# Altium integrated library IDT Memory SRAM.IntLib: 46 symbols (part 2 of 2)
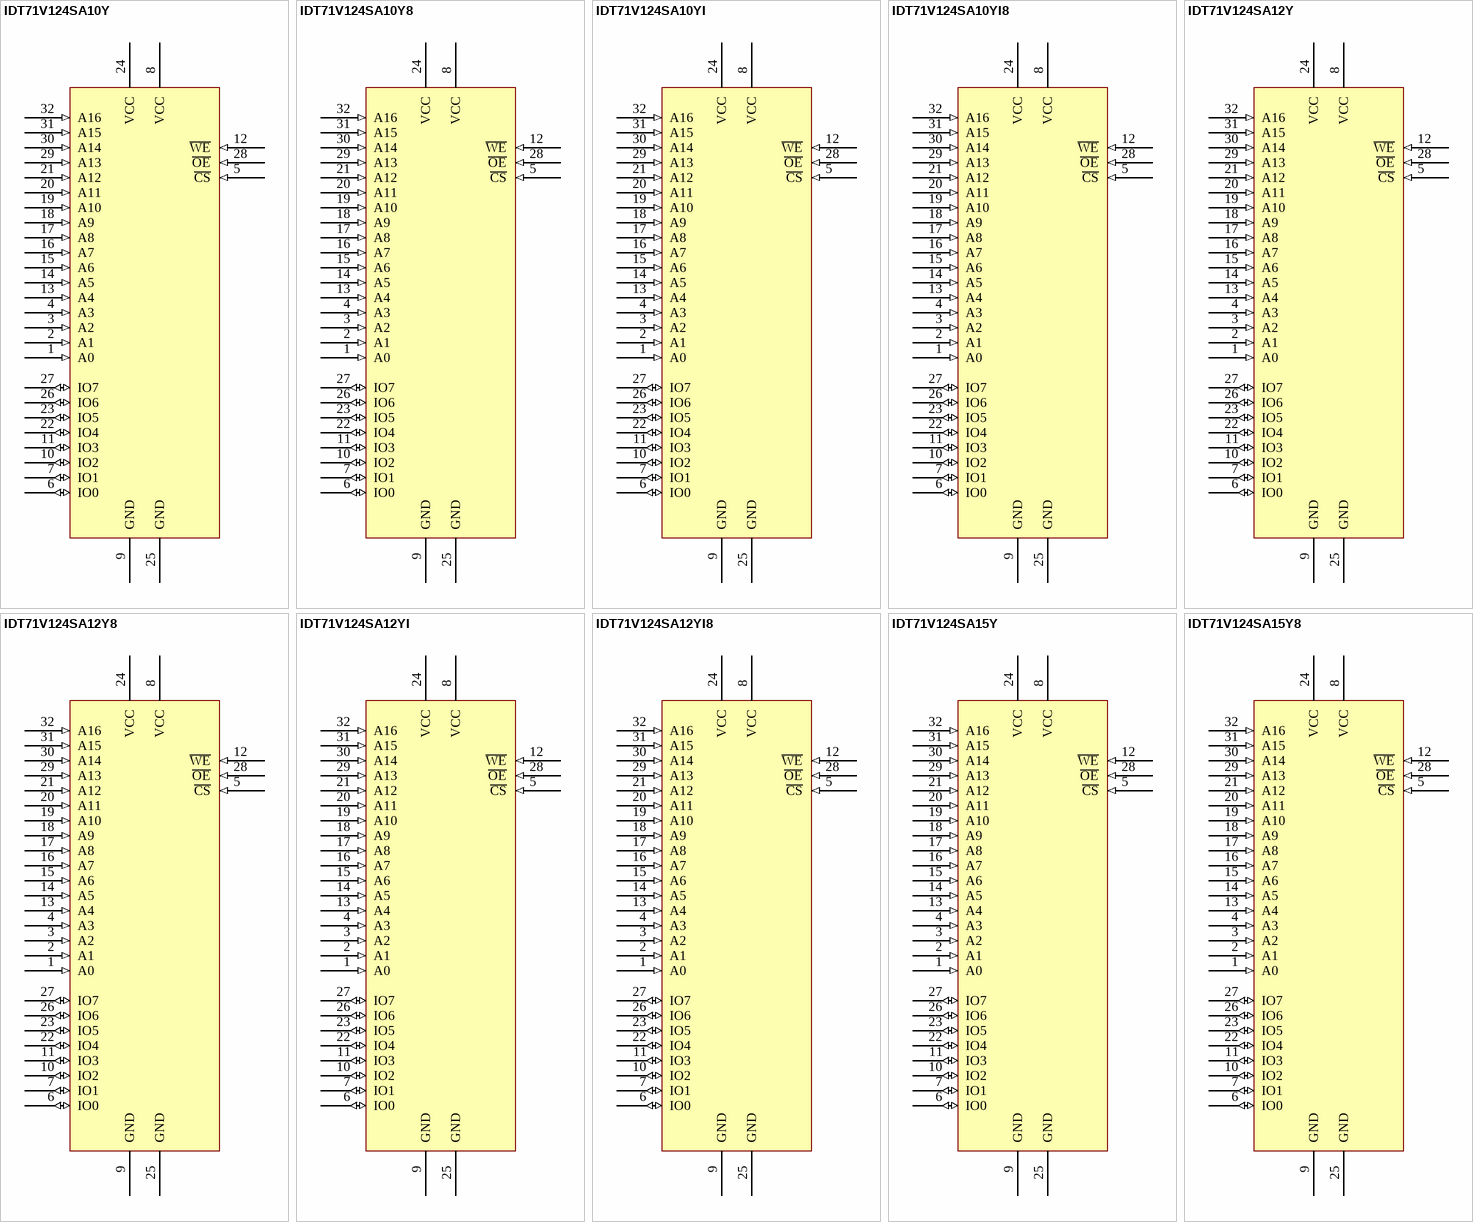
[diagram p5: symbols IDT71V124SA10Y to IDT71V124SA15Y8]

## IDT71V124SA12Y
designator U?
1 Mb (128 K x 8) 3.3 Volt CMOS SRAM, Center Power and Ground Pinout, 12 ns, 400-mil SOJ32, Commercial Grade; PackageDocument: rev01, Oct-2004; Published: 6-Oct-2005; DatasheetDocument: Jan-2004; PackageReference: PB32; Publisher: Altium Limited; Code_JEDEC: MS-027-AB; ComponentLink1Description: Manufacturer Link; ComponentLink1URL: http://www1.idt.com/pcms/products.taf?catID=58743&genID=71V124SA; ComponentLink2Description: Datasheet; ComponentLink2URL: http://www1.idt.com/pcms/tempDocs/71V124sa.pdf
pcadlib SO-J32 (SOJ; 32 Leads; Body Width 7.5 mm; Pitch 1.27 mm)
footprint PB32 (SOJ; 32 Leads; Body Width 10.16 mm; Pitch 1.27 mm)
pins: 1 A0 (in) "Address 0", 2 A1 (in) "Address 1", 3 A2 (in) "Address 3", 4 A3 (in) "Address 3", 5 ~{CS} (in) "Chip Select", 6 IO0 (io) "Data 0", 7 IO1 (io) "Data 1", 8 VCC (power) "Pos Supply", 9 GND (power), 10 IO2 (io) "Data 2", 11 IO3 (io) "Data 3", 12 ~{WE} (in) "Write Enable", 13 A4 (in) "Address 4", 14 A5 (in) "Address 5", 15 A6 (in) "Address 6", 16 A7 (in) "Address 7", 17 A8 (in) "Address 8", 18 A9 (in) "Address 9", 19 A10 (in) "Address 10", 20 A11 (in) "Address 11", 21 A12 (in) "Address 12", 22 IO4 (io) "Data 4", 23 IO5 (io) "Data 5", 24 VCC (power) "Pos Supply", 25 GND (power), 26 IO6 (io) "Data 6", 27 IO7 (io) "Data 7", 28 ~{OE} (in) "Output Enable", 29 A13 (in) "Address 13", 30 A14 (in) "Address 14", 31 A15 (in) "Address 15", 32 A16 (in) "Address 16"

## IDT71V124SA12Y8
designator U?
1 Mb (128 K x 8) 3.3 Volt CMOS SRAM, Center Power and Ground Pinout, 12 ns, 400-mil SOJ32, Commercial Grade; PackageDocument: rev01, Oct-2004; Published: 6-Oct-2005; DatasheetDocument: Jan-2004; PackageReference: PB32; Publisher: Altium Limited; Code_JEDEC: MS-027-AB; ComponentLink1Description: Manufacturer Link; ComponentLink1URL: http://www1.idt.com/pcms/products.taf?catID=58743&genID=71V124SA; ComponentLink2Description: Datasheet; ComponentLink2URL: http://www1.idt.com/pcms/tempDocs/71V124sa.pdf
pcadlib SO-J32 (SOJ; 32 Leads; Body Width 7.5 mm; Pitch 1.27 mm)
footprint PB32 (SOJ; 32 Leads; Body Width 10.16 mm; Pitch 1.27 mm)
pins: 1 A0 (in) "Address 0", 2 A1 (in) "Address 1", 3 A2 (in) "Address 3", 4 A3 (in) "Address 3", 5 ~{CS} (in) "Chip Select", 6 IO0 (io) "Data 0", 7 IO1 (io) "Data 1", 8 VCC (power) "Pos Supply", 9 GND (power), 10 IO2 (io) "Data 2", 11 IO3 (io) "Data 3", 12 ~{WE} (in) "Write Enable", 13 A4 (in) "Address 4", 14 A5 (in) "Address 5", 15 A6 (in) "Address 6", 16 A7 (in) "Address 7", 17 A8 (in) "Address 8", 18 A9 (in) "Address 9", 19 A10 (in) "Address 10", 20 A11 (in) "Address 11", 21 A12 (in) "Address 12", 22 IO4 (io) "Data 4", 23 IO5 (io) "Data 5", 24 VCC (power) "Pos Supply", 25 GND (power), 26 IO6 (io) "Data 6", 27 IO7 (io) "Data 7", 28 ~{OE} (in) "Output Enable", 29 A13 (in) "Address 13", 30 A14 (in) "Address 14", 31 A15 (in) "Address 15", 32 A16 (in) "Address 16"

## IDT71V124SA12YI
designator U?
1 Mb (128 K x 8) 3.3 Volt CMOS SRAM, Center Power and Ground Pinout, 12 ns, 400-mil SOJ32, Industrial Grade; PackageDocument: rev01, Oct-2004; Published: 6-Oct-2005; DatasheetDocument: Jan-2004; PackageReference: PB32; Publisher: Altium Limited; Code_JEDEC: MS-027-AB; ComponentLink1Description: Manufacturer Link; ComponentLink1URL: http://www1.idt.com/pcms/products.taf?catID=58743&genID=71V124SA; ComponentLink2Description: Datasheet; ComponentLink2URL: http://www1.idt.com/pcms/tempDocs/71V124sa.pdf
pcadlib SO-J32 (SOJ; 32 Leads; Body Width 7.5 mm; Pitch 1.27 mm)
footprint PB32 (SOJ; 32 Leads; Body Width 10.16 mm; Pitch 1.27 mm)
pins: 1 A0 (in) "Address 0", 2 A1 (in) "Address 1", 3 A2 (in) "Address 3", 4 A3 (in) "Address 3", 5 ~{CS} (in) "Chip Select", 6 IO0 (io) "Data 0", 7 IO1 (io) "Data 1", 8 VCC (power) "Pos Supply", 9 GND (power), 10 IO2 (io) "Data 2", 11 IO3 (io) "Data 3", 12 ~{WE} (in) "Write Enable", 13 A4 (in) "Address 4", 14 A5 (in) "Address 5", 15 A6 (in) "Address 6", 16 A7 (in) "Address 7", 17 A8 (in) "Address 8", 18 A9 (in) "Address 9", 19 A10 (in) "Address 10", 20 A11 (in) "Address 11", 21 A12 (in) "Address 12", 22 IO4 (io) "Data 4", 23 IO5 (io) "Data 5", 24 VCC (power) "Pos Supply", 25 GND (power), 26 IO6 (io) "Data 6", 27 IO7 (io) "Data 7", 28 ~{OE} (in) "Output Enable", 29 A13 (in) "Address 13", 30 A14 (in) "Address 14", 31 A15 (in) "Address 15", 32 A16 (in) "Address 16"

## IDT71V124SA12YI8
designator U?
1 Mb (128 K x 8) 3.3 Volt CMOS SRAM, Center Power and Ground Pinout, 12 ns, 400-mil SOJ32, Industrial Grade; PackageDocument: rev01, Oct-2004; Published: 6-Oct-2005; DatasheetDocument: Jan-2004; PackageReference: PB32; Publisher: Altium Limited; Code_JEDEC: MS-027-AB; ComponentLink1Description: Manufacturer Link; ComponentLink1URL: http://www1.idt.com/pcms/products.taf?catID=58743&genID=71V124SA; ComponentLink2Description: Datasheet; ComponentLink2URL: http://www1.idt.com/pcms/tempDocs/71V124sa.pdf
pcadlib SO-J32 (SOJ; 32 Leads; Body Width 7.5 mm; Pitch 1.27 mm)
footprint PB32 (SOJ; 32 Leads; Body Width 10.16 mm; Pitch 1.27 mm)
pins: 1 A0 (in) "Address 0", 2 A1 (in) "Address 1", 3 A2 (in) "Address 3", 4 A3 (in) "Address 3", 5 ~{CS} (in) "Chip Select", 6 IO0 (io) "Data 0", 7 IO1 (io) "Data 1", 8 VCC (power) "Pos Supply", 9 GND (power), 10 IO2 (io) "Data 2", 11 IO3 (io) "Data 3", 12 ~{WE} (in) "Write Enable", 13 A4 (in) "Address 4", 14 A5 (in) "Address 5", 15 A6 (in) "Address 6", 16 A7 (in) "Address 7", 17 A8 (in) "Address 8", 18 A9 (in) "Address 9", 19 A10 (in) "Address 10", 20 A11 (in) "Address 11", 21 A12 (in) "Address 12", 22 IO4 (io) "Data 4", 23 IO5 (io) "Data 5", 24 VCC (power) "Pos Supply", 25 GND (power), 26 IO6 (io) "Data 6", 27 IO7 (io) "Data 7", 28 ~{OE} (in) "Output Enable", 29 A13 (in) "Address 13", 30 A14 (in) "Address 14", 31 A15 (in) "Address 15", 32 A16 (in) "Address 16"

## IDT71V124SA15Y
designator U?
1 Mb (128 K x 8) 3.3 Volt CMOS SRAM, Center Power and Ground Pinout, 15 ns, 400-mil SOJ32, Commercial Grade; PackageDocument: rev01, Oct-2004; Published: 6-Oct-2005; DatasheetDocument: Jan-2004; PackageReference: PB32; Publisher: Altium Limited; Code_JEDEC: MS-027-AB; ComponentLink1Description: Manufacturer Link; ComponentLink1URL: http://www1.idt.com/pcms/products.taf?catID=58743&genID=71V124SA; ComponentLink2Description: Datasheet; ComponentLink2URL: http://www1.idt.com/pcms/tempDocs/71V124sa.pdf
pcadlib SO-J32 (SOJ; 32 Leads; Body Width 7.5 mm; Pitch 1.27 mm)
footprint PB32 (SOJ; 32 Leads; Body Width 10.16 mm; Pitch 1.27 mm)
pins: 1 A0 (in) "Address 0", 2 A1 (in) "Address 1", 3 A2 (in) "Address 3", 4 A3 (in) "Address 3", 5 ~{CS} (in) "Chip Select", 6 IO0 (io) "Data 0", 7 IO1 (io) "Data 1", 8 VCC (power) "Pos Supply", 9 GND (power), 10 IO2 (io) "Data 2", 11 IO3 (io) "Data 3", 12 ~{WE} (in) "Write Enable", 13 A4 (in) "Address 4", 14 A5 (in) "Address 5", 15 A6 (in) "Address 6", 16 A7 (in) "Address 7", 17 A8 (in) "Address 8", 18 A9 (in) "Address 9", 19 A10 (in) "Address 10", 20 A11 (in) "Address 11", 21 A12 (in) "Address 12", 22 IO4 (io) "Data 4", 23 IO5 (io) "Data 5", 24 VCC (power) "Pos Supply", 25 GND (power), 26 IO6 (io) "Data 6", 27 IO7 (io) "Data 7", 28 ~{OE} (in) "Output Enable", 29 A13 (in) "Address 13", 30 A14 (in) "Address 14", 31 A15 (in) "Address 15", 32 A16 (in) "Address 16"

## IDT71V124SA15Y8
designator U?
1 Mb (128 K x 8) 3.3 Volt CMOS SRAM, Center Power and Ground Pinout, 15 ns, 400-mil SOJ32, Commercial Grade; PackageDocument: rev01, Oct-2004; Published: 6-Oct-2005; DatasheetDocument: Jan-2004; PackageReference: PB32; Publisher: Altium Limited; Code_JEDEC: MS-027-AB; ComponentLink1Description: Manufacturer Link; ComponentLink1URL: http://www1.idt.com/pcms/products.taf?catID=58743&genID=71V124SA; ComponentLink2Description: Datasheet; ComponentLink2URL: http://www1.idt.com/pcms/tempDocs/71V124sa.pdf
pcadlib SO-J32 (SOJ; 32 Leads; Body Width 7.5 mm; Pitch 1.27 mm)
footprint PB32 (SOJ; 32 Leads; Body Width 10.16 mm; Pitch 1.27 mm)
pins: 1 A0 (in) "Address 0", 2 A1 (in) "Address 1", 3 A2 (in) "Address 3", 4 A3 (in) "Address 3", 5 ~{CS} (in) "Chip Select", 6 IO0 (io) "Data 0", 7 IO1 (io) "Data 1", 8 VCC (power) "Pos Supply", 9 GND (power), 10 IO2 (io) "Data 2", 11 IO3 (io) "Data 3", 12 ~{WE} (in) "Write Enable", 13 A4 (in) "Address 4", 14 A5 (in) "Address 5", 15 A6 (in) "Address 6", 16 A7 (in) "Address 7", 17 A8 (in) "Address 8", 18 A9 (in) "Address 9", 19 A10 (in) "Address 10", 20 A11 (in) "Address 11", 21 A12 (in) "Address 12", 22 IO4 (io) "Data 4", 23 IO5 (io) "Data 5", 24 VCC (power) "Pos Supply", 25 GND (power), 26 IO6 (io) "Data 6", 27 IO7 (io) "Data 7", 28 ~{OE} (in) "Output Enable", 29 A13 (in) "Address 13", 30 A14 (in) "Address 14", 31 A15 (in) "Address 15", 32 A16 (in) "Address 16"

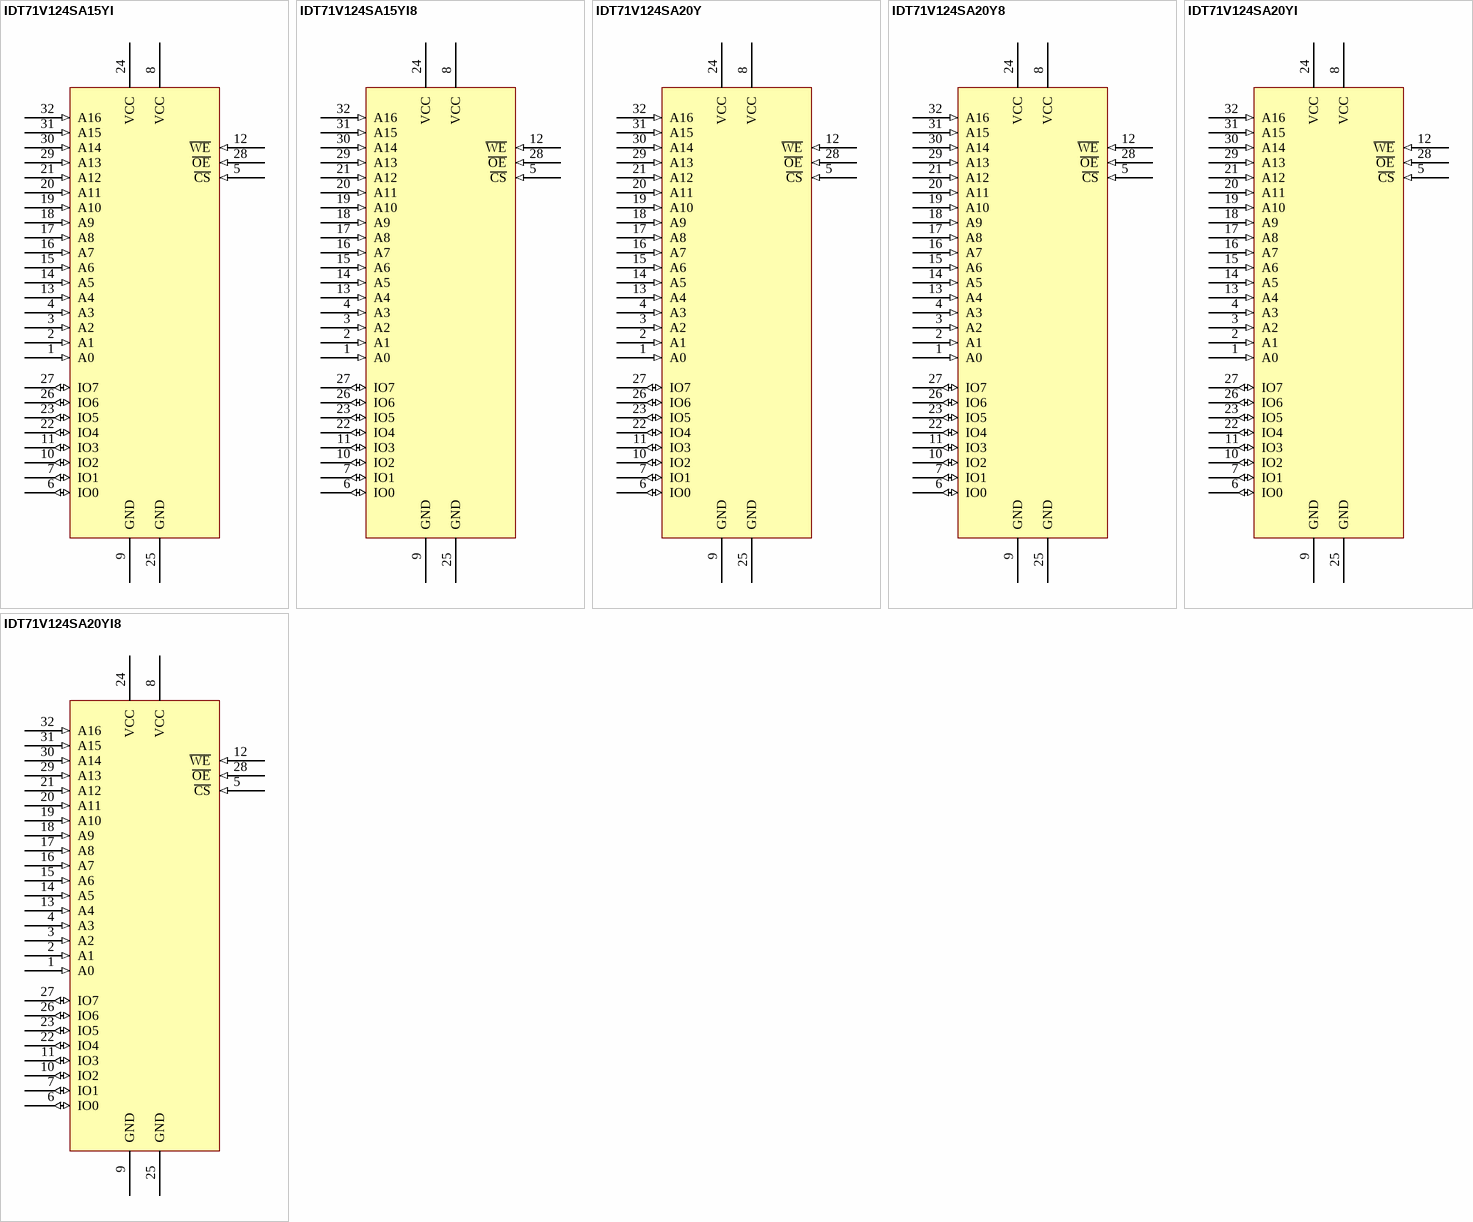
[diagram p4: symbols IDT71V124SA15YI to IDT71V124SA20YI8]

## IDT71V124SA15YI
designator U?
1 Mb (128 K x 8) 3.3 Volt CMOS SRAM, Center Power and Ground Pinout, 15 ns, 400-mil SOJ32, Industrial Grade; PackageDocument: rev01, Oct-2004; Published: 6-Oct-2005; DatasheetDocument: Jan-2004; PackageReference: PB32; Publisher: Altium Limited; Code_JEDEC: MS-027-AB; ComponentLink1Description: Manufacturer Link; ComponentLink1URL: http://www1.idt.com/pcms/products.taf?catID=58743&genID=71V124SA; ComponentLink2Description: Datasheet; ComponentLink2URL: http://www1.idt.com/pcms/tempDocs/71V124sa.pdf
pcadlib SO-J32 (SOJ; 32 Leads; Body Width 7.5 mm; Pitch 1.27 mm)
footprint PB32 (SOJ; 32 Leads; Body Width 10.16 mm; Pitch 1.27 mm)
pins: 1 A0 (in) "Address 0", 2 A1 (in) "Address 1", 3 A2 (in) "Address 3", 4 A3 (in) "Address 3", 5 ~{CS} (in) "Chip Select", 6 IO0 (io) "Data 0", 7 IO1 (io) "Data 1", 8 VCC (power) "Pos Supply", 9 GND (power), 10 IO2 (io) "Data 2", 11 IO3 (io) "Data 3", 12 ~{WE} (in) "Write Enable", 13 A4 (in) "Address 4", 14 A5 (in) "Address 5", 15 A6 (in) "Address 6", 16 A7 (in) "Address 7", 17 A8 (in) "Address 8", 18 A9 (in) "Address 9", 19 A10 (in) "Address 10", 20 A11 (in) "Address 11", 21 A12 (in) "Address 12", 22 IO4 (io) "Data 4", 23 IO5 (io) "Data 5", 24 VCC (power) "Pos Supply", 25 GND (power), 26 IO6 (io) "Data 6", 27 IO7 (io) "Data 7", 28 ~{OE} (in) "Output Enable", 29 A13 (in) "Address 13", 30 A14 (in) "Address 14", 31 A15 (in) "Address 15", 32 A16 (in) "Address 16"

## IDT71V124SA15YI8
designator U?
1 Mb (128 K x 8) 3.3 Volt CMOS SRAM, Center Power and Ground Pinout, 15 ns, 400-mil SOJ32, Industrial Grade; PackageDocument: rev01, Oct-2004; Published: 6-Oct-2005; DatasheetDocument: Jan-2004; PackageReference: PB32; Publisher: Altium Limited; Code_JEDEC: MS-027-AB; ComponentLink1Description: Manufacturer Link; ComponentLink1URL: http://www1.idt.com/pcms/products.taf?catID=58743&genID=71V124SA; ComponentLink2Description: Datasheet; ComponentLink2URL: http://www1.idt.com/pcms/tempDocs/71V124sa.pdf
pcadlib SO-J32 (SOJ; 32 Leads; Body Width 7.5 mm; Pitch 1.27 mm)
footprint PB32 (SOJ; 32 Leads; Body Width 10.16 mm; Pitch 1.27 mm)
pins: 1 A0 (in) "Address 0", 2 A1 (in) "Address 1", 3 A2 (in) "Address 3", 4 A3 (in) "Address 3", 5 ~{CS} (in) "Chip Select", 6 IO0 (io) "Data 0", 7 IO1 (io) "Data 1", 8 VCC (power) "Pos Supply", 9 GND (power), 10 IO2 (io) "Data 2", 11 IO3 (io) "Data 3", 12 ~{WE} (in) "Write Enable", 13 A4 (in) "Address 4", 14 A5 (in) "Address 5", 15 A6 (in) "Address 6", 16 A7 (in) "Address 7", 17 A8 (in) "Address 8", 18 A9 (in) "Address 9", 19 A10 (in) "Address 10", 20 A11 (in) "Address 11", 21 A12 (in) "Address 12", 22 IO4 (io) "Data 4", 23 IO5 (io) "Data 5", 24 VCC (power) "Pos Supply", 25 GND (power), 26 IO6 (io) "Data 6", 27 IO7 (io) "Data 7", 28 ~{OE} (in) "Output Enable", 29 A13 (in) "Address 13", 30 A14 (in) "Address 14", 31 A15 (in) "Address 15", 32 A16 (in) "Address 16"

## IDT71V124SA20Y
designator U?
1 Mb (128 K x 8) 3.3 Volt CMOS SRAM, Center Power and Ground Pinout, 20 ns, 400-mil SOJ32, Commercial Grade; PackageDocument: rev01, Oct-2004; Published: 6-Oct-2005; DatasheetDocument: Jan-2004; PackageReference: PB32; Publisher: Altium Limited; Code_JEDEC: MS-027-AB; ComponentLink1Description: Manufacturer Link; ComponentLink1URL: http://www1.idt.com/pcms/products.taf?catID=58743&genID=71V124SA; ComponentLink2Description: Datasheet; ComponentLink2URL: http://www1.idt.com/pcms/tempDocs/71V124sa.pdf
pcadlib SO-J32 (SOJ; 32 Leads; Body Width 7.5 mm; Pitch 1.27 mm)
footprint PB32 (SOJ; 32 Leads; Body Width 10.16 mm; Pitch 1.27 mm)
pins: 1 A0 (in) "Address 0", 2 A1 (in) "Address 1", 3 A2 (in) "Address 3", 4 A3 (in) "Address 3", 5 ~{CS} (in) "Chip Select", 6 IO0 (io) "Data 0", 7 IO1 (io) "Data 1", 8 VCC (power) "Pos Supply", 9 GND (power), 10 IO2 (io) "Data 2", 11 IO3 (io) "Data 3", 12 ~{WE} (in) "Write Enable", 13 A4 (in) "Address 4", 14 A5 (in) "Address 5", 15 A6 (in) "Address 6", 16 A7 (in) "Address 7", 17 A8 (in) "Address 8", 18 A9 (in) "Address 9", 19 A10 (in) "Address 10", 20 A11 (in) "Address 11", 21 A12 (in) "Address 12", 22 IO4 (io) "Data 4", 23 IO5 (io) "Data 5", 24 VCC (power) "Pos Supply", 25 GND (power), 26 IO6 (io) "Data 6", 27 IO7 (io) "Data 7", 28 ~{OE} (in) "Output Enable", 29 A13 (in) "Address 13", 30 A14 (in) "Address 14", 31 A15 (in) "Address 15", 32 A16 (in) "Address 16"

## IDT71V124SA20Y8
designator U?
1 Mb (128 K x 8) 3.3 Volt CMOS SRAM, Center Power and Ground Pinout, 20 ns, 400-mil SOJ32, Commercial Grade; PackageDocument: rev01, Oct-2004; Published: 6-Oct-2005; DatasheetDocument: Jan-2004; PackageReference: PB32; Publisher: Altium Limited; Code_JEDEC: MS-027-AB; ComponentLink1Description: Manufacturer Link; ComponentLink1URL: http://www1.idt.com/pcms/products.taf?catID=58743&genID=71V124SA; ComponentLink2Description: Datasheet; ComponentLink2URL: http://www1.idt.com/pcms/tempDocs/71V124sa.pdf
pcadlib SO-J32 (SOJ; 32 Leads; Body Width 7.5 mm; Pitch 1.27 mm)
footprint PB32 (SOJ; 32 Leads; Body Width 10.16 mm; Pitch 1.27 mm)
pins: 1 A0 (in) "Address 0", 2 A1 (in) "Address 1", 3 A2 (in) "Address 3", 4 A3 (in) "Address 3", 5 ~{CS} (in) "Chip Select", 6 IO0 (io) "Data 0", 7 IO1 (io) "Data 1", 8 VCC (power) "Pos Supply", 9 GND (power), 10 IO2 (io) "Data 2", 11 IO3 (io) "Data 3", 12 ~{WE} (in) "Write Enable", 13 A4 (in) "Address 4", 14 A5 (in) "Address 5", 15 A6 (in) "Address 6", 16 A7 (in) "Address 7", 17 A8 (in) "Address 8", 18 A9 (in) "Address 9", 19 A10 (in) "Address 10", 20 A11 (in) "Address 11", 21 A12 (in) "Address 12", 22 IO4 (io) "Data 4", 23 IO5 (io) "Data 5", 24 VCC (power) "Pos Supply", 25 GND (power), 26 IO6 (io) "Data 6", 27 IO7 (io) "Data 7", 28 ~{OE} (in) "Output Enable", 29 A13 (in) "Address 13", 30 A14 (in) "Address 14", 31 A15 (in) "Address 15", 32 A16 (in) "Address 16"

## IDT71V124SA20YI
designator U?
1 Mb (128 K x 8) 3.3 Volt CMOS SRAM, Center Power and Ground Pinout, 20 ns, 400-mil SOJ32, Industrial Grade; PackageDocument: rev01, Oct-2004; Published: 6-Oct-2005; DatasheetDocument: Jan-2004; PackageReference: PB32; Publisher: Altium Limited; Code_JEDEC: MS-027-AB; ComponentLink1Description: Manufacturer Link; ComponentLink1URL: http://www1.idt.com/pcms/products.taf?catID=58743&genID=71V124SA; ComponentLink2Description: Datasheet; ComponentLink2URL: http://www1.idt.com/pcms/tempDocs/71V124sa.pdf
pcadlib SO-J32 (SOJ; 32 Leads; Body Width 7.5 mm; Pitch 1.27 mm)
footprint PB32 (SOJ; 32 Leads; Body Width 10.16 mm; Pitch 1.27 mm)
pins: 1 A0 (in) "Address 0", 2 A1 (in) "Address 1", 3 A2 (in) "Address 3", 4 A3 (in) "Address 3", 5 ~{CS} (in) "Chip Select", 6 IO0 (io) "Data 0", 7 IO1 (io) "Data 1", 8 VCC (power) "Pos Supply", 9 GND (power), 10 IO2 (io) "Data 2", 11 IO3 (io) "Data 3", 12 ~{WE} (in) "Write Enable", 13 A4 (in) "Address 4", 14 A5 (in) "Address 5", 15 A6 (in) "Address 6", 16 A7 (in) "Address 7", 17 A8 (in) "Address 8", 18 A9 (in) "Address 9", 19 A10 (in) "Address 10", 20 A11 (in) "Address 11", 21 A12 (in) "Address 12", 22 IO4 (io) "Data 4", 23 IO5 (io) "Data 5", 24 VCC (power) "Pos Supply", 25 GND (power), 26 IO6 (io) "Data 6", 27 IO7 (io) "Data 7", 28 ~{OE} (in) "Output Enable", 29 A13 (in) "Address 13", 30 A14 (in) "Address 14", 31 A15 (in) "Address 15", 32 A16 (in) "Address 16"

## IDT71V124SA20YI8
designator U?
1 Mb (128 K x 8) 3.3 Volt CMOS SRAM, Center Power and Ground Pinout, 20 ns, 400-mil SOJ32, Industrial Grade; PackageDocument: rev01, Oct-2004; Published: 6-Oct-2005; DatasheetDocument: Jan-2004; PackageReference: PB32; Publisher: Altium Limited; Code_JEDEC: MS-027-AB; ComponentLink1Description: Manufacturer Link; ComponentLink1URL: http://www1.idt.com/pcms/products.taf?catID=58743&genID=71V124SA; ComponentLink2Description: Datasheet; ComponentLink2URL: http://www1.idt.com/pcms/tempDocs/71V124sa.pdf
pcadlib SO-J32 (SOJ; 32 Leads; Body Width 7.5 mm; Pitch 1.27 mm)
footprint PB32 (SOJ; 32 Leads; Body Width 10.16 mm; Pitch 1.27 mm)
pins: 1 A0 (in) "Address 0", 2 A1 (in) "Address 1", 3 A2 (in) "Address 3", 4 A3 (in) "Address 3", 5 ~{CS} (in) "Chip Select", 6 IO0 (io) "Data 0", 7 IO1 (io) "Data 1", 8 VCC (power) "Pos Supply", 9 GND (power), 10 IO2 (io) "Data 2", 11 IO3 (io) "Data 3", 12 ~{WE} (in) "Write Enable", 13 A4 (in) "Address 4", 14 A5 (in) "Address 5", 15 A6 (in) "Address 6", 16 A7 (in) "Address 7", 17 A8 (in) "Address 8", 18 A9 (in) "Address 9", 19 A10 (in) "Address 10", 20 A11 (in) "Address 11", 21 A12 (in) "Address 12", 22 IO4 (io) "Data 4", 23 IO5 (io) "Data 5", 24 VCC (power) "Pos Supply", 25 GND (power), 26 IO6 (io) "Data 6", 27 IO7 (io) "Data 7", 28 ~{OE} (in) "Output Enable", 29 A13 (in) "Address 13", 30 A14 (in) "Address 14", 31 A15 (in) "Address 15", 32 A16 (in) "Address 16"